# Altium schematic symbol library ULN2003A.SchLib: 1 symbol
Pins are listed as number, name and electrical type; pins without a type are passive.

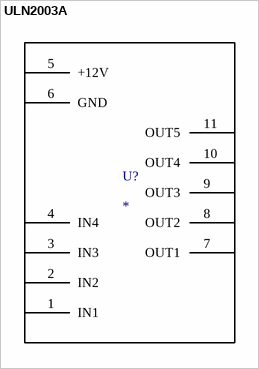
[diagram p0: symbol ULN2003A]

## ULN2003A
designator U?
pins: 1 IN1, 2 IN2, 3 IN3, 4 IN4, 5 +12V, 6 GND, 7 OUT1, 8 OUT2, 9 OUT3, 10 OUT4, 11 OUT5